# Altium footprint library MPPT_Charger.PcbLib: 34 footprints (part 3 of 3)
Each footprint in its own frame and in the unit in brackets; x right, y up, seen from the top. Pads: shape width x height; smd on the part's side, far side on the other; paste and mask are expansions set on the pad; w line width, h text height; cw(c..) or ccw(c..) is an arc to the next point about the centre after c.
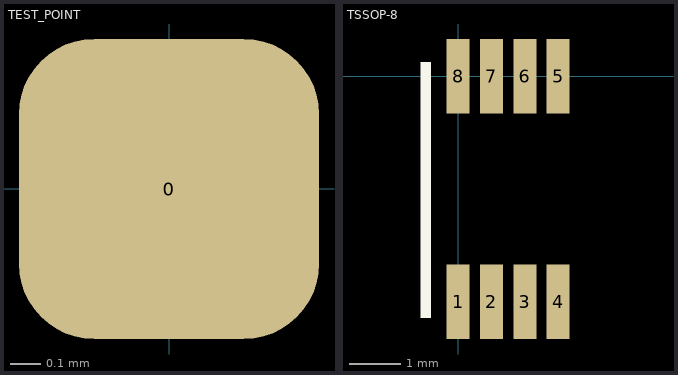
[diagram p2: the footprints below, top view; thin cyan lines are the x and y axes]

## TEST_POINT [mm] "Rounded Corners Test Point"
pads (1):
  rrect50% 1x1 smd: 0(0,0)

## TSSOP-8 [mm] "Plasti Small-Outline Package"
height 1.1
pads (8):
  rect 0.45x1.45 smd: 1(0,-4.4) 2(0.65,-4.4) 3(1.3,-4.4) 4(1.95,-4.4) 5(1.95,0) 6(1.3,0) 7(0.65,0) 8(0,0)
Top Overlay:
  rectangle: -0.73,-4.72 -0.53,0.28
3D body "User Library-TSSOP-8 3_1x3_1.STEP": height 1.1, standoff 0, extent -0.58,-4.72 2.52,0.28